# Altium footprint library MODULE_ESP32_NODEMCU.PcbLib: 1 footprints
Each footprint in its own frame and in the unit in brackets; x right, y up, seen from the top. Pads: shape width x height; smd on the part's side, far side on the other; paste and mask are expansions set on the pad; w line width, h text height; cw(c..) or ccw(c..) is an arc to the next point about the centre after c.
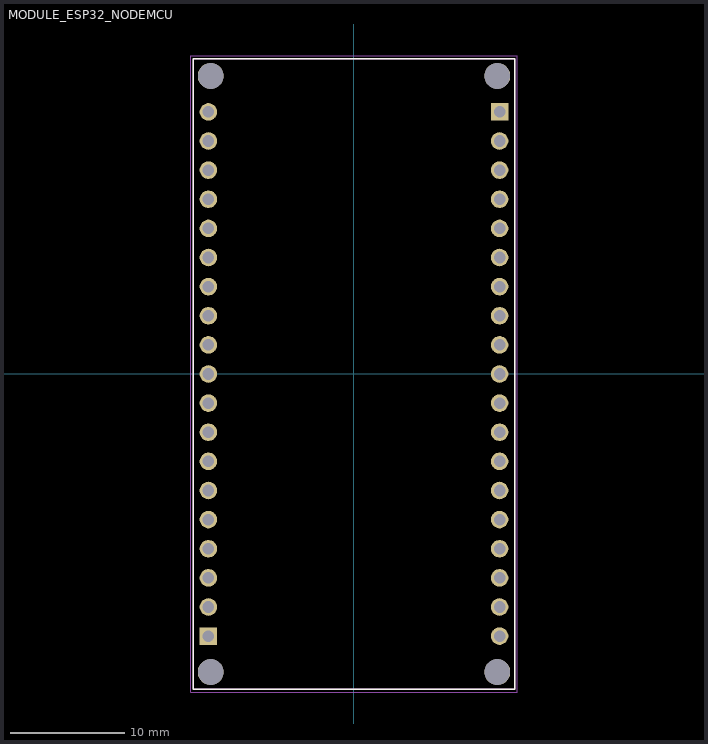
[diagram p0: the footprint, top view; thin cyan lines are the x and y axes]

## MODULE_ESP32_NODEMCU [mm]
height 6.6
pads (42):
  rect 1.53x1.53 / inner round 1.53 / far side rect 1.53x1.53 hole 1.02: J4_1(12.7,22.86) J5_1(-12.7,-22.86)
  round 1.53 hole 1.02: J4_2(12.7,20.32) J4_3(12.7,17.78) J4_4(12.7,15.24) J4_5(12.7,12.7) J4_6(12.7,10.16) J4_7(12.7,7.62) J4_8(12.7,5.08) J4_9(12.7,2.54) J4_10(12.7,0) J4_11(12.7,-2.54) J4_12(12.7,-5.08) J4_13(12.7,-7.62) J4_14(12.7,-10.16) J4_15(12.7,-12.7) J4_16(12.7,-15.24) J4_17(12.7,-17.78) J4_18(12.7,-20.32) J4_19(12.7,-22.86) J5_2(-12.7,-20.32) J5_3(-12.7,-17.78) J5_4(-12.7,-15.24) J5_5(-12.7,-12.7) J5_6(-12.7,-10.16) J5_7(-12.7,-7.62) J5_8(-12.7,-5.08) J5_9(-12.7,-2.54) J5_10(-12.7,0) J5_11(-12.7,2.54) J5_12(-12.7,5.08) J5_13(-12.7,7.62) J5_14(-12.7,10.16) J5_15(-12.7,12.7) J5_16(-12.7,15.24) J5_17(-12.7,17.78) J5_18(-12.7,20.32) J5_19(-12.7,22.86)
  round 2.25 hole 2.25 unplated: ""(-12.5,-26) ""(-12.5,26) ""(12.5,-26) ""(12.5,26)
Top Overlay:
  lines w0.127: -14,-27.5 14,-27.5 14,27.5 -14,27.5 -14,-27.5
Assembly Top:
  lines w0.127: -14,-27.5 14,-27.5 14,27.5 -14,27.5 -14,-27.5
Courtyard Top:
  lines w0.05: -14.25,-27.75 14.25,-27.75 14.25,27.75 -14.25,27.75 -14.25,-27.75
3D body "step_temp.STEP": height 7.05, standoff -6, extent -14,-28.15 14,27.5